# Altium schematic symbol library 289-PRS17001-12.SchLib: 2 symbols
Pins are listed as number, name and electrical type; pins without a type are passive.

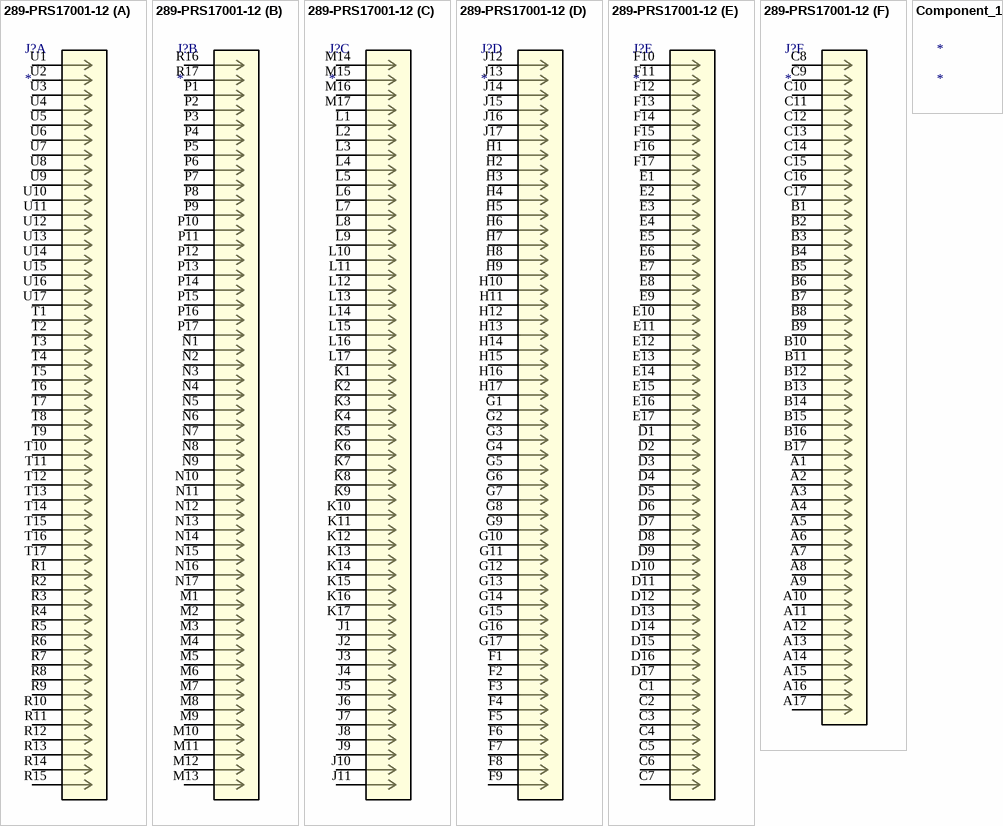
[diagram p0: symbols 289-PRS17001-12 to Component_1]

## 289-PRS17001-12
designator J?
No Description Available; Mfr_Name: Aries; Type: IC Sockets; RefDes: RefDes
footprint CONN289_PRS17001_ARS
part A pins: R1, R2, R3, R4, R5, R6, R7, R8, R9, R10, R11, R12, R13, R14, R15, T1, T2, T3, T4, T5, T6, T7, T8, T9, T10, T11, T12, T13, T14, T15, T16, T17, U1, U2, U3, U4, U5, U6, U7, U8, U9, U10, U11, U12, U13, U14, U15, U16, U17
part B pins: M1, M2, M3, M4, M5, M6, M7, M8, M9, M10, M11, M12, M13, N1, N2, N3, N4, N5, N6, N7, N8, N9, N10, N11, N12, N13, N14, N15, N16, N17, P1, P2, P3, P4, P5, P6, P7, P8, P9, P10, P11, P12, P13, P14, P15, P16, P17, R16, R17
part C pins: J1, J2, J3, J4, J5, J6, J7, J8, J9, J10, J11, K1, K2, K3, K4, K5, K6, K7, K8, K9, K10, K11, K12, K13, K14, K15, K16, K17, L1, L2, L3, L4, L5, L6, L7, L8, L9, L10, L11, L12, L13, L14, L15, L16, L17, M14, M15, M16, M17
part D pins: F1, F2, F3, F4, F5, F6, F7, F8, F9, G1, G2, G3, G4, G5, G6, G7, G8, G9, G10, G11, G12, G13, G14, G15, G16, G17, H1, H2, H3, H4, H5, H6, H7, H8, H9, H10, H11, H12, H13, H14, H15, H16, H17, J12, J13, J14, J15, J16, J17
part E pins: C1, C2, C3, C4, C5, C6, C7, D1, D2, D3, D4, D5, D6, D7, D8, D9, D10, D11, D12, D13, D14, D15, D16, D17, E1, E2, E3, E4, E5, E6, E7, E8, E9, E10, E11, E12, E13, E14, E15, E16, E17, F10, F11, F12, F13, F14, F15, F16, F17
part F pins: A1, A2, A3, A4, A5, A6, A7, A8, A9, A10, A11, A12, A13, A14, A15, A16, A17, B1, B2, B3, B4, B5, B6, B7, B8, B9, B10, B11, B12, B13, B14, B15, B16, B17, C8, C9, C10, C11, C12, C13, C14, C15, C16, C17

## Component_1
designator *